# Altium footprint library PcbLib1.PcbLib: 1 footprints
Each footprint in its own frame and in the unit in brackets; x right, y up, seen from the top. Pads: shape width x height; smd on the part's side, far side on the other; paste and mask are expansions set on the pad; w line width, h text height; cw(c..) or ccw(c..) is an arc to the next point about the centre after c.
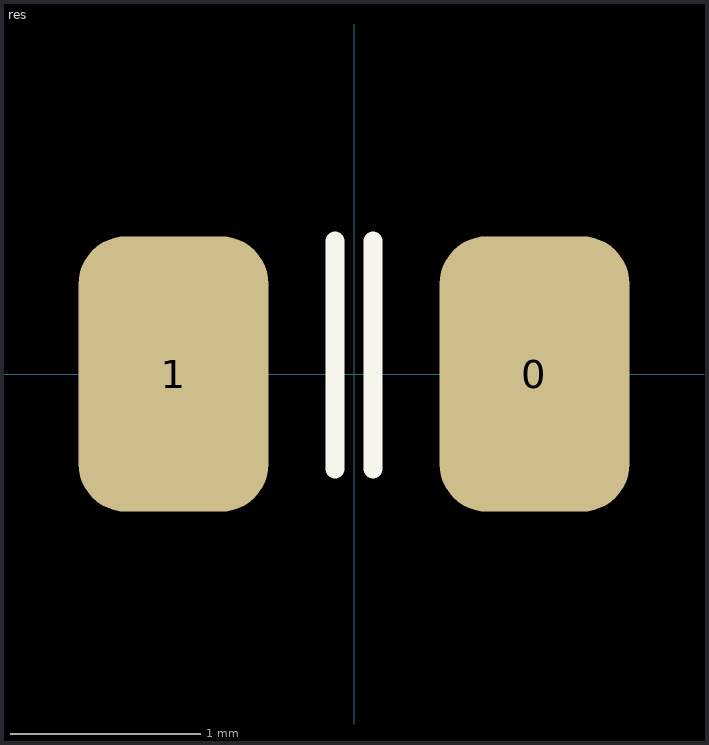
[diagram p0: the footprint, top view; thin cyan lines are the x and y axes]

## res [mm]
pads (2):
  rrect50% 1x1.45 smd: 0(0.95,0) 1(-0.95,0)
Top Overlay:
  lines w0.1: -0.1,-0.5 -0.1,0.7 ; 0.1,-0.5 0.1,0.7
3D body "1-2176341-9.SLDPRT": height 0.58, standoff 0.02, extent -1,-0.6 1,0.65